# Altium footprint library 0805SB_wide_gap.PcbLib: 1 footprints
Each footprint in its own frame and in the unit in brackets; x right, y up, seen from the top. Pads: shape width x height; smd on the part's side, far side on the other; paste and mask are expansions set on the pad; w line width, h text height; cw(c..) or ccw(c..) is an arc to the next point about the centre after c.
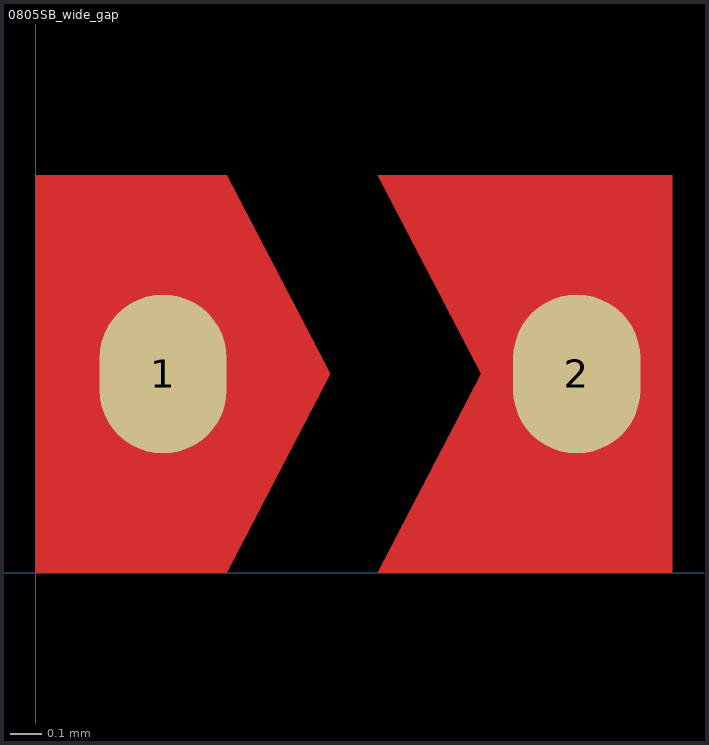
[diagram p0: the footprint, top view; thin cyan lines are the x and y axes]

## 0805SB_wide_gap [mm]
pads (2):
  oval 0.4x0.5 smd: 1(0.4,0.625) 2(1.7,0.625)
Top Layer:
  region: 1.075,1.25 1.4,0.625 1.075,0 2,0 2,1.25
  region: 0,1.25 0,0 0.6,0 0.925,0.625 0.6,1.25
Top Solder:
  rectangle: 0,0 2,1.25
3D body: height 0.3, standoff 0, extent 0.4,0 1.7,1.25